# Altium footprint library MCU_starter_25.PcbLib: 25 footprints (part 1 of 2)
Each footprint in its own frame and in the unit in brackets; x right, y up, seen from the top. Pads: shape width x height; smd on the part's side, far side on the other; paste and mask are expansions set on the pad; w line width, h text height; cw(c..) or ccw(c..) is an arc to the next point about the centre after c.
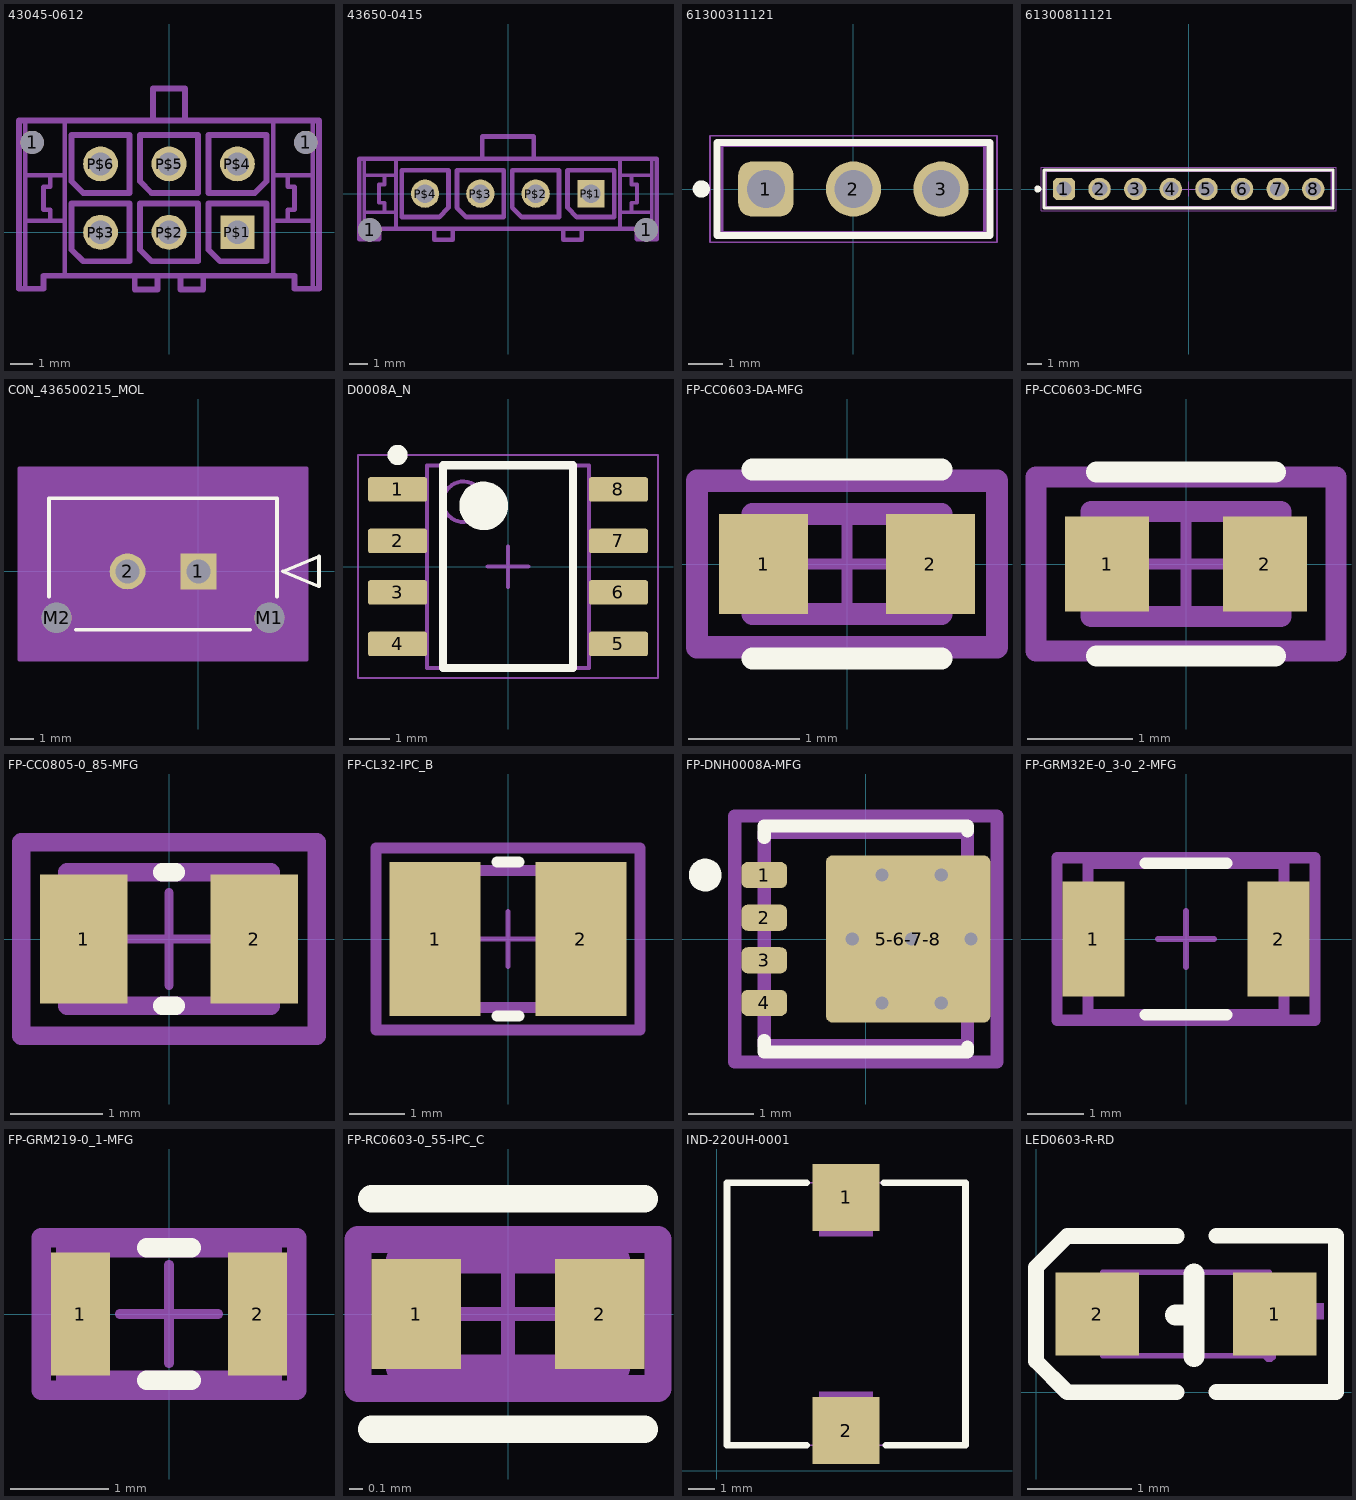
[diagram p0: the footprints below, top view; thin cyan lines are the x and y axes]

## 43045-0612 [mm]
pads (8):
  round 1.02 hole 1.02 unplated: 1(-6,3.94) 1(6,3.94)
  rect 1.482x1.482 / inner rect 1.524x1.524 / far side rect 1.482x1.482 hole 1.02: P$1(3,0)
  round 1.53 / inner round 1.524 / far side round 1.53 hole 1.02: P$2(0,0) P$3(-3,0) P$4(3,3) P$5(0,3) P$6(-3,3)
Mechanical 22:
  lines w0.2: -6.3,-2.47 -6.3,-1.7 -6.3,-1 -6.3,0.5 ; -6.3,4.9 -6.3,4 -6.3,2.5 ; -4.57,-1.9 -4.57,-1 -4.57,0.5 ; -4.57,4.9 -4.57,4 -4.57,2.5 ; 4.57,-1.9 4.57,-1 4.57,0.5 ; 4.57,4.9 4.57,4 4.57,2.5 ; 6.3,-2.47 6.3,-1.7 6.3,-1 6.3,0.5 ; 6.3,4.9 6.3,4 6.3,2.5 ; -6.3,0.5 -5.2,0.5 ; -6.3,0.5 -6.3,2.5 ; -6.3,2.5 -5.2,2.5 ; -5.2,0.5 -5.2,1 -5.5,1 -5.5,2 -5.2,2 -5.2,2.5 ; -5.2,0.5 -4.57,0.5 ; -5.2,2.5 -4.57,2.5 ; -4.57,0.5 -4.57,2.5 ; 4.57,0.5 5.2,0.5 ; 4.57,0.5 4.57,2.5 ; 4.57,2.5 5.2,2.5 ; 5.2,0.5 5.2,1 5.5,1 5.5,2 5.2,2 5.2,2.5 ; 5.2,0.5 6.3,0.5 ; 5.2,2.5 6.3,2.5 ; 6.3,0.5 6.3,2.5
  lines w0.254: -1.5,-1.9 -1.5,-2.5 -0.5,-2.5 -0.5,-1.9 ; -1.5,-1.9 -4.57,-1.9 -5.5,-1.9 -5.5,-2.47 -6.3,-2.47 -6.575,-2.47 -6.575,4.9 -6.3,4.9 -4.57,4.9 -0.7,4.9 ; -1.5,-1.9 -0.5,-1.9 ; -0.7,4.9 -0.7,6.3 0.7,6.3 0.7,4.9 ; -0.7,4.9 0.7,4.9 ; -0.5,-1.9 0.5,-1.9 ; 0.5,-1.9 0.5,-2.5 1.5,-2.5 1.5,-1.9 ; 0.5,-1.9 1.5,-1.9 ; 0.7,4.9 4.57,4.9 6.3,4.9 6.575,4.9 6.575,-2.47 6.3,-2.47 5.5,-2.47 5.5,-1.9 4.57,-1.9 1.5,-1.9 ; -4.27,-0.762 -3.762,-1.27 -1.73,-1.27 -1.73,1.27 -4.27,1.27 -4.27,-0.762 ; -4.27,2.238 -3.762,1.73 -1.73,1.73 -1.73,4.27 -4.27,4.27 -4.27,2.238 ; -1.27,-0.762 -0.762,-1.27 1.27,-1.27 1.27,1.27 -1.27,1.27 -1.27,-0.762 ; -1.27,2.238 -0.762,1.73 1.27,1.73 1.27,4.27 -1.27,4.27 -1.27,2.238 ; 1.73,-0.762 2.238,-1.27 4.27,-1.27 4.27,1.27 1.73,1.27 1.73,-0.762
Bottom 3D Body:
  lines w0.254: 1.73,1.73 3.762,1.73 4.27,2.238 4.27,4.27 1.73,4.27 1.73,1.73
3D body "430450612.stp": height 10.03, standoff -3.06, extent -6.575,-2.446 6.575,6.324

## 43650-0415 [mm]
pads (6):
  round 1.27 hole 1.27 unplated: 1(-7.5,-1.96) 1(7.5,-1.96)
  rect 1.482x1.482 / inner rect 1.524x1.524 / far side rect 1.482x1.482 hole 1.02: P$1(4.5,0)
  round 1.53 / inner round 1.524 / far side round 1.53 hole 1.02: P$2(1.5,0) P$3(-1.5,0) P$4(-4.5,0)
Mechanical 22:
  lines w0.2: -7.8,-2.47 -7.8,-1 ; -7.8,1.9 -7.8,1 ; -6.07,-1.9 -6.07,-1 ; -6.07,1.9 -6.07,1 ; 6.07,-1.9 6.07,-1 ; 6.07,1.9 6.07,1 ; 7.8,-2.47 7.8,-1 ; 7.8,1.9 7.8,1 ; -7.8,-1 -7.8,1 ; -7.8,-1 -6.7,-1 ; -7.8,1 -6.7,1 ; -6.7,-1 -6.07,-1 ; -6.7,-1 -6.7,-0.5 -7,-0.5 -7,0.5 -6.7,0.5 -6.7,1 ; -6.7,1 -6.07,1 ; -6.07,-1 -6.07,1 ; 6.07,-1 6.07,1 ; 6.07,-1 6.7,-1 ; 6.07,1 6.7,1 ; 6.7,-1 7.8,-1 ; 6.7,-1 6.7,-0.5 7,-0.5 7,0.5 6.7,0.5 6.7,1 ; 6.7,1 7.8,1 ; 7.8,-1 7.8,1
  lines w0.254: -4,-1.9 -3,-1.9 ; -4,-1.9 -6.07,-1.9 -7,-1.9 -7,-2.47 -7.8,-2.47 -8.075,-2.47 -8.075,1.9 -7.8,1.9 -6.07,1.9 -1.4,1.9 ; -4,-1.9 -4,-2.5 -3,-2.5 -3,-1.9 ; -3,-1.9 3,-1.9 ; -1.4,1.9 1.4,1.9 ; -1.4,1.9 -1.4,3.1 1.4,3.1 1.4,1.9 ; 1.4,1.9 6.07,1.9 7.8,1.9 8.075,1.9 8.075,-2.47 7.8,-2.47 7,-2.47 7,-1.9 6.07,-1.9 4,-1.9 ; 3,-1.9 4,-1.9 ; 3,-1.9 3,-2.5 4,-2.5 4,-1.9 ; -5.77,-1.27 -5.77,1.27 -3.23,1.27 -3.23,-0.762 -3.738,-1.27 -5.77,-1.27 ; -2.77,-0.762 -2.77,1.27 -0.23,1.27 -0.23,-1.27 -2.262,-1.27 -2.77,-0.762 ; 0.23,-0.762 0.23,1.27 2.77,1.27 2.77,-1.27 0.738,-1.27 0.23,-0.762 ; 3.23,-0.762 3.23,1.27 5.77,1.27 5.77,-1.27 3.738,-1.27 3.23,-0.762
3D body "436500415.stp": height 10.03, standoff -3.05, extent -7.825,-2.47 7.825,3.135

## 61300311121 [mm] "Pin Header, pitch 2.54 mm, THT, Vertical, single row, 3p"
height 8.54
pads (3):
  rrect50% 1.6x1.6 hole 1.1: 1(-2.54,0)
  round 1.6 hole 1.1: 2(0,0) 3(2.54,0)
Top Overlay:
  circle w0.25: c-4.41,0 r0.125
  lines w0.2: -3.96,-1.345 -3.96,1.345 3.96,1.345 3.96,-1.345 -3.96,-1.345
Top Courtyard:
  lines w0.05: -4.16,-1.545 4.16,-1.545 4.16,1.545 -4.16,1.545 -4.16,-1.545
Top Designator:
  text ".Designator" at -7.498,-0.5 h1.5
Top Component Outline:
  lines w0.1: -3.81,-1.27 3.81,-1.27 3.81,1.27 -3.81,1.27 -3.81,-1.27
Top Component Center:
  lines w0.05: -0.5,0 0.5,0 ; 0,-0.5 0,0.5
3D body "61300311121.stp": height 8.57, standoff -2.97, extent -3.81,-1.27 3.81,1.27

## 61300811121 [mm] "Pin Header, pitch 2.54 mm, THT, Vertical, single row, 8p"
height 8.54
pads (8):
  rrect50% 1.6x1.6 hole 1.1: 1(-8.89,0)
  round 1.6 hole 1.1: 2(-6.35,0) 3(-3.81,0) 4(-1.27,0) 5(1.27,0) 6(3.81,0) 7(6.35,0) 8(8.89,0)
Top Overlay:
  circle w0.25: c-10.76,0 r0.125
  lines w0.2: -10.31,-1.345 10.31,-1.345 10.31,1.345 -10.31,1.345 -10.31,-1.345
Top Courtyard:
  lines w0.05: -10.51,-1.545 -10.51,1.545 10.51,1.545 10.51,-1.545 -10.51,-1.545
Top Designator:
  text ".Designator" at -7.498,-0.5 h1.5
Top Component Outline:
  lines w0.1: -10.16,-1.27 -10.16,1.27 10.16,1.27 10.16,-1.27 -10.16,-1.27
Top Component Center:
  lines w0.05: -0.5,0 0.5,0 ; 0,-0.5 0,0.5
3D body "61300811121.stp": height 8.57, standoff -2.97, extent -10.16,-1.27 10.16,1.27

## CON_436500215_MOL [mm]
pads (4):
  rect 1.52x1.52 / inner round 1.524 / far side rect 1.52x1.52 hole 1.02 paste-2539.97 mask+0.076: 1(0,0)
  round 1.52 / inner round 1.524 / far side round 1.52 hole 1.02 paste-2539.97 mask+0.076: 2(-3,0)
  round 1.27 / inner round 1.524 / far side round 1.27 hole 1.27 unplated paste-2539.97 mask+0.076: M1(3,-1.96) M2(-6,-1.96)
Top Overlay:
  lines w0.152: -6.325,-1.065 -6.325,3.1 3.325,3.1 3.325,-1.065 ; -5.196,-2.47 2.196,-2.47 ; 3.579,0 5.103,0.635 5.103,-0.635 3.579,0
Mechanical 13:
  lines w0.127: -6.325,-2.47 3.325,-2.47 3.325,3.1 -6.325,3.1 -6.325,-2.47 ; 3.579,0 5.103,0.635 5.103,-0.635 3.579,0
Mechanical 15:
  region: 4.595,4.37 -7.595,4.37 -7.595,-3.74 4.595,-3.74
  lines w0.127: -7.595,-3.74 -7.595,4.37 4.595,4.37 4.595,-3.74 -7.595,-3.74

## D0008A_N [mm] "SOIC, 8-Leads, Body 5x4mm, Pitch 1.27mm, IPC Medium Density"
height 1.75
pads (8):
  rrect17% 1.45x0.6 smd: 1(-2.725,1.905) 2(-2.725,0.635) 3(-2.725,-0.635) 4(-2.725,-1.905) 5(2.725,-1.905) 6(2.725,-0.635) 7(2.725,0.635) 8(2.725,1.905)
Top Overlay:
  circle w0.6: c-0.6,1.5 r0.3
  circle w0.25: c-2.725,2.755 r0.125
  lines w0.2: -1.6,-2.5 1.6,-2.5 1.6,2.5 -1.6,2.5 -1.6,-2.5
Mechanical 1:
  text ".Designator" at -1.397,-0.254 h0.6
Mechanical 13:
  circle w0.1: c-1.1,1.6 r0.5
  lines w0.1: -2,-2.5 2,-2.5 2,2.5 -2,2.5 -2,-2.5
Mechanical 15:
  lines w0.05: -3.7,-2.75 3.7,-2.75 3.7,2.75 -3.7,2.75 -3.7,-2.75
  lines w0.1: -0.5,0 0.5,0 ; 0,-0.5 0,0.5
3D body "SOIC-8akaD0008AakaM08A.stp": height 1.63, standoff 0, extent -3,-2.45 3,2.45

## FP-CC0603-DA-MFG [mm]
pads (2):
  rect 0.8x0.9 smd paste+0 mask+0: 1(-0.75,0) 2(0.75,0)
Top Overlay:
  lines w0.2: -0.85,-0.85 0.85,-0.85 ; -0.85,0.85 0.85,0.85
Top 3D Body:
  lines w0.2: -0.85,-0.45 0.85,-0.45 0.85,0.45 -0.85,0.45 -0.85,-0.45
Top Courtyard:
  lines w0.2: -1.35,-0.75 1.35,-0.75 1.35,0.75 -1.35,0.75 -1.35,-0.75
Top Assembly:
  lines w0.2: -1.35,-0.75 1.35,-0.75 1.35,0.75 -1.35,0.75 -1.35,-0.75
  text ".Designator" at 0,0.188 h1
Top Component Center:
  lines w0.1: -0.5,0 0.5,0 ; 0,-0.5 0,0.5
3D body "Cap_YAGEO_CC0603KRX7R9BB271_eec.STEP": height 0.25, standoff 0, extent -1.35,-0.75 1.35,0.75

## FP-CC0603-DC-MFG [mm]
pads (2):
  rect 0.8x0.9 smd paste+0 mask+0: 1(-0.75,0) 2(0.75,0)
Top Overlay:
  lines w0.2: -0.85,-0.875 0.85,-0.875 ; -0.85,0.875 0.85,0.875
Top 3D Body:
  lines w0.2: -0.9,-0.5 -0.9,0.5 0.9,0.5 0.9,-0.5 -0.9,-0.5
Top Courtyard:
  lines w0.2: -1.425,-0.825 -1.425,0.825 1.425,0.825 1.425,-0.825 -1.425,-0.825
Top Assembly:
  lines w0.2: -1.425,-0.825 -1.425,0.825 1.425,0.825 1.425,-0.825 -1.425,-0.825
  text ".Designator" at 0,0.188 h1
Top Component Center:
  lines w0.1: -0.5,0 0.5,0 ; 0,-0.5 0,0.5
3D body "Cap_YAGEO_CC0603MRX7R5BB475_eec.STEP": height 0.25, standoff 0, extent -1.425,-0.825 1.425,0.825

## FP-CC0805-0_85-MFG [mm]
pads (2):
  rect 0.95x1.4 smd paste+0 mask+0: 1(-0.925,0) 2(0.925,0)
Top Overlay:
  lines w0.2: -0.075,-0.725 0.075,-0.725 ; -0.075,0.725 0.075,0.725
Top 3D Body:
  lines w0.2: -1.1,-0.725 -1.1,0.725 1.1,0.725 1.1,-0.725 -1.1,-0.725
Top Courtyard:
  lines w0.2: -1.6,-1.05 -1.6,1.05 1.6,1.05 1.6,-1.05 -1.6,-1.05
Top Assembly:
  lines w0.2: -1.6,-1.05 -1.6,1.05 1.6,1.05 1.6,-1.05 -1.6,-1.05
  text ".Designator" at 0,0.188 h1
Top Component Center:
  lines w0.1: -0.5,0 0.5,0 ; 0,-0.5 0,0.5
3D body "Cap_Yageo_CC0805KKX7R7BB105_eec.STEP": height 0.25, standoff 0, extent -1.6,-1.05 1.6,1.05

## FP-CL32-IPC_B [mm]
pads (2):
  rect 1.653x2.804 smd paste+0 mask+0: 1(-1.325,0) 2(1.325,0)
Top Overlay:
  lines w0.2: -0.199,-1.402 0.199,-1.402 ; -0.199,1.402 0.199,1.402
Top 3D Body:
  lines w0.2: -1.6,-1.25 1.6,-1.25 1.6,1.25 -1.6,1.25 -1.6,-1.25
Top Courtyard:
  lines w0.2: -2.402,-1.652 2.402,-1.652 2.402,1.652 -2.402,1.652 -2.402,-1.652
Top Assembly:
  lines w0.2: -2.402,-1.652 2.402,-1.652 2.402,1.652 -2.402,1.652 -2.402,-1.652
  text ".Designator" at 0,0.188 h1
Top Component Center:
  lines w0.1: -0.5,0 0.5,0 ; 0,-0.5 0,0.5
3D body "Cap_Samsung_Electro-Mechanics_America_Inc_CL32C472JBFNNNE_eec.STEP": height 0.25, standoff 0, extent -2.402,-1.652 2.402,1.652

## FP-DNH0008A-MFG [mm]
pads (5):
  rrect50% 0.7x0.4 smd paste-1000 mask-1000: 1(-1.55,0.975) 2(-1.55,0.325) 3(-1.55,-0.325) 4(-1.55,-0.975)
  rrect8% 2.51x2.55 smd paste-1000 mask-1000: 5-6-7-8(0.645,0)
via -0.207,0 diameter 0.5 hole 0.2
via 0.245,0.975 diameter 0.5 hole 0.2
via 0.245,-0.975 diameter 0.5 hole 0.2
via 1.15,-0.975 diameter 0.5 hole 0.2
via 1.15,0.975 diameter 0.5 hole 0.2
via 0.698,0 diameter 0.5 hole 0.2
via 1.603,0 diameter 0.5 hole 0.2
Top Overlay:
  circle w0.25: c-2.45,0.975 r0.125
  lines w0.2: -1.55,-1.55 -1.55,-1.725 1.55,-1.725 1.55,-1.65 ; -1.55,1.55 -1.55,1.725 1.55,1.725 1.55,1.65
Top Paste:
  drawing of 12 lines, arcs and shapes, not listed
Top Solder:
  drawing of 5 lines, arcs and shapes, not listed
Top 3D Body:
  lines w0.2: -1.55,-1.625 1.55,-1.625 1.55,1.625 -1.55,1.625 -1.55,-1.625
Top Courtyard:
  lines w0.2: -2,-1.875 2,-1.875 2,1.875 -2,1.875 -2,-1.875
Top Assembly:
  lines w0.2: -2,-1.875 2,-1.875 2,1.875 -2,1.875 -2,-1.875
Top Component Center:
  lines w0.1: -0.5,0 0.5,0 ; 0,-0.5 0,0.5
3D body "Trans_Texas_Instruments_CSD18543Q3AT_eec.STEP": height 0.25, standoff 0, extent -2,-1.875 2,1.875

## FP-GRM32E-0_3-0_2-MFG [mm]
pads (2):
  rect 1.1x2.05 smd paste+0 mask+0: 1(-1.65,0) 2(1.65,0)
Top Overlay:
  lines w0.2: -0.725,-1.35 0.725,-1.35 ; -0.725,1.35 0.725,1.35
Top 3D Body:
  lines w0.2: -1.75,-1.35 -1.75,1.35 1.75,1.35 1.75,-1.35 -1.75,-1.35
Top Courtyard:
  lines w0.2: -2.3,-1.45 -2.3,1.45 2.3,1.45 2.3,-1.45 -2.3,-1.45
Top Assembly:
  lines w0.2: -2.3,-1.45 -2.3,1.45 2.3,1.45 2.3,-1.45 -2.3,-1.45
  text ".Designator" at 0,0.188 h1
Top Component Center:
  lines w0.1: -0.5,0 0.5,0 ; 0,-0.5 0,0.5
3D body "Cap_Murata_GRM32EC70G107ME15K_eec.STEP": height 0.25, standoff 0, extent -2.3,-1.45 2.3,1.45

## FP-GRM219-0_1-MFG [mm]
pads (2):
  rect 0.6x1.25 smd paste+0 mask+0: 1(-0.9,0) 2(0.9,0)
Top Overlay:
  lines w0.2: -0.225,-0.675 0.225,-0.675 ; -0.225,0.675 0.225,0.675
Top 3D Body:
  lines w0.2: -1.05,-0.675 1.05,-0.675 1.05,0.675 -1.05,0.675 -1.05,-0.675
Top Courtyard:
  lines w0.2: -1.3,-0.775 1.3,-0.775 1.3,0.775 -1.3,0.775 -1.3,-0.775
Top Assembly:
  lines w0.2: -1.3,-0.775 1.3,-0.775 1.3,0.775 -1.3,0.775 -1.3,-0.775
  text ".Designator" at 0,0.188 h1
Top Component Center:
  lines w0.1: -0.5,0 0.5,0 ; 0,-0.5 0,0.5
3D body "Cap_Murata_GRM2191X1A393JA01D_eec.STEP": height 0.25, standoff 0, extent -1.3,-0.775 1.3,0.775

## FP-RC0603-0_55-IPC_C [mm]
pads (2):
  rect 0.659x0.812 smd paste+0 mask+0: 1(-0.677,0) 2(0.677,0)
Top Overlay:
  lines w0.2: -1.006,-0.85 1.006,-0.85 ; -1.006,0.85 1.006,0.85
Top 3D Body:
  lines w0.2: -0.8,-0.4 0.8,-0.4 0.8,0.4 -0.8,0.4 -0.8,-0.4
Top Courtyard:
  lines w0.2: -1.106,-0.55 1.106,-0.55 1.106,0.55 -1.106,0.55 -1.106,-0.55
Top Assembly:
  lines w0.2: -1.106,-0.55 1.106,-0.55 1.106,0.55 -1.106,0.55 -1.106,-0.55
  text ".Designator" at 0,0.188 h1
Top Component Center:
  lines w0.1: -0.5,0 0.5,0 ; 0,-0.5 0,0.5
3D body "Res_Yageo_RC0603FR-073K3L_eec.STEP": height 0.25, standoff 0, extent -1.106,-0.55 1.106,0.55

## IND-220UH-0001 [mm]
pads (2):
  rect 2.5x2.5 smd paste+0 mask+0.05: 1(4.831,10.204) 2(4.831,1.504)
Top Overlay:
  lines w0.254: 3.35,0.954 0.381,0.954 0.381,10.754 3.35,10.754 ; 6.231,10.754 9.281,10.754 9.281,0.954 6.312,0.954
Mechanical 15:
  region: 3.831,10.254 5.831,10.254 5.831,8.754 3.831,8.754
  region: 3.831,2.954 5.831,2.954 5.831,1.454 3.831,1.454
  region: 9.341,10.754 9.341,10.779 9.306,10.814 9.256,10.814 9.221,10.779 9.221,10.754 9.221,10.729 9.256,10.694 9.306,10.694 9.341,10.729
  lines w0.051: 0.381,0.954 3.832,0.954 3.832,1.454 5.83,1.454 5.831,0.954 9.281,0.954 9.281,10.754 5.831,10.754 5.831,10.254 3.832,10.254 3.832,10.754 0.381,10.754 0.381,0.954

## LED0603-R-RD [mm]
pads (2):
  rect 0.8x0.8 smd: 1(2.291,0.751) 2(0.589,0.751)
Top Overlay:
  lines w0.15: 1.35,0 0.3,0 0,0.3 0,0.4 0,1.1 0,1.2 0.3,1.5 1.35,1.5 ; 1.73,0.002 2.88,0.002 ; 1.73,1.502 2.88,1.502 2.88,0.022
  lines w0.203: 1.341,0.743 1.516,0.743 ; 1.516,0.345 1.516,1.132
Bottom Designator:
  region: 0.247,0.801 0.907,0.801 0.907,0.648 0.247,0.648
  region: 2.376,0.476 2.376,1.136 2.528,1.136 2.528,0.476
  region: 2.1,0.853 2.761,0.853 2.761,0.7 2.1,0.7
Mechanical 15:
  region: 0.64,0.351 0.64,1.151 0.94,1.151 0.94,0.351
  region: 2.24,1.151 2.24,0.351 1.94,0.351 1.94,1.151
  region: 2.3,0.351 2.3,0.376 2.265,0.411 2.215,0.411 2.18,0.376 2.18,0.351 2.18,0.326 2.215,0.291 2.265,0.291 2.3,0.326
  lines w0.051: 0.64,0.351 0.64,1.151 2.24,1.151 2.24,0.351 0.64,0.351